# EAGLE library part LSM303D (library X893)
3-axis accelerometer and 3-axis magnetometer http://www.st.com/internet/analog/product/250145.jsp
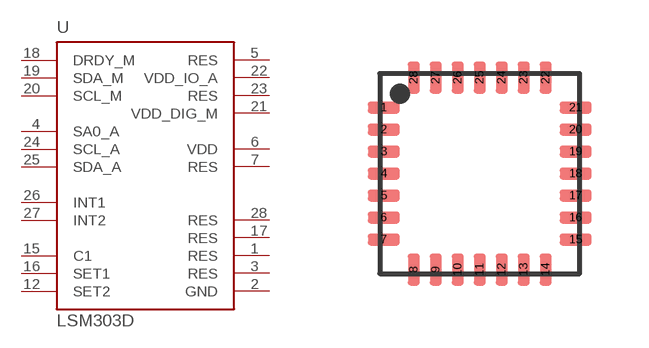
[diagram p55: symbol with the pads of LGA28-5X5; footprint LGA28-5X5]

Designator prefix U

## LSM303DLH  [LGA28-5X5]
1  RES  pas
2  GND  pwr
3  RES  pas
4  SA0_A
5  RES  pas
6  VDD  pwr
7  RES  pas
12  SET2  pas
15  C1  pas
16  SET1  pas
17  RES  pas
18  DRDY_M
19  SDA_M
20  SCL_M
21  VDD_DIG_M  pwr
22  VDD_IO_A  pwr
23  RES  pas
24  SCL_A
25  SDA_A
26  INT1  out
27  INT2  out
28  RES  pas

## Footprint LGA28-5X5 (pad centres in mm)
smd 0.8 x 0.3: 1 -2.4,1.65; 2 -2.4,1.1; 3 -2.4,0.55; 4 -2.4,0; 5 -2.4,-0.55; 6 -2.4,-1.1; 7 -2.4,-1.65; 15 2.4,-1.65; 16 2.4,-1.1; 17 2.4,-0.55; 18 2.4,0; 19 2.4,0.55; 20 2.4,1.1; 21 2.4,1.65
smd 0.3 x 0.8: 8 -1.65,-2.4; 9 -1.1,-2.4; 10 -0.55,-2.4; 11 0,-2.4; 12 0.55,-2.4; 13 1.1,-2.4; 14 1.65,-2.4; 22 1.65,2.4; 23 1.1,2.4; 24 0.55,2.4; 25 0,2.4; 26 -0.55,2.4; 27 -1.1,2.4; 28 -1.65,2.4